# Altium footprint library Protel 99SE BANKS PCB.PCBLIB: 278 footprints (part 2 of 18)
Each footprint in its own frame and in the unit in brackets; x right, y up, seen from the top. Pads: shape width x height; smd on the part's side, far side on the other; paste and mask are expansions set on the pad; w line width, h text height; cw(c..) or ccw(c..) is an arc to the next point about the centre after c.
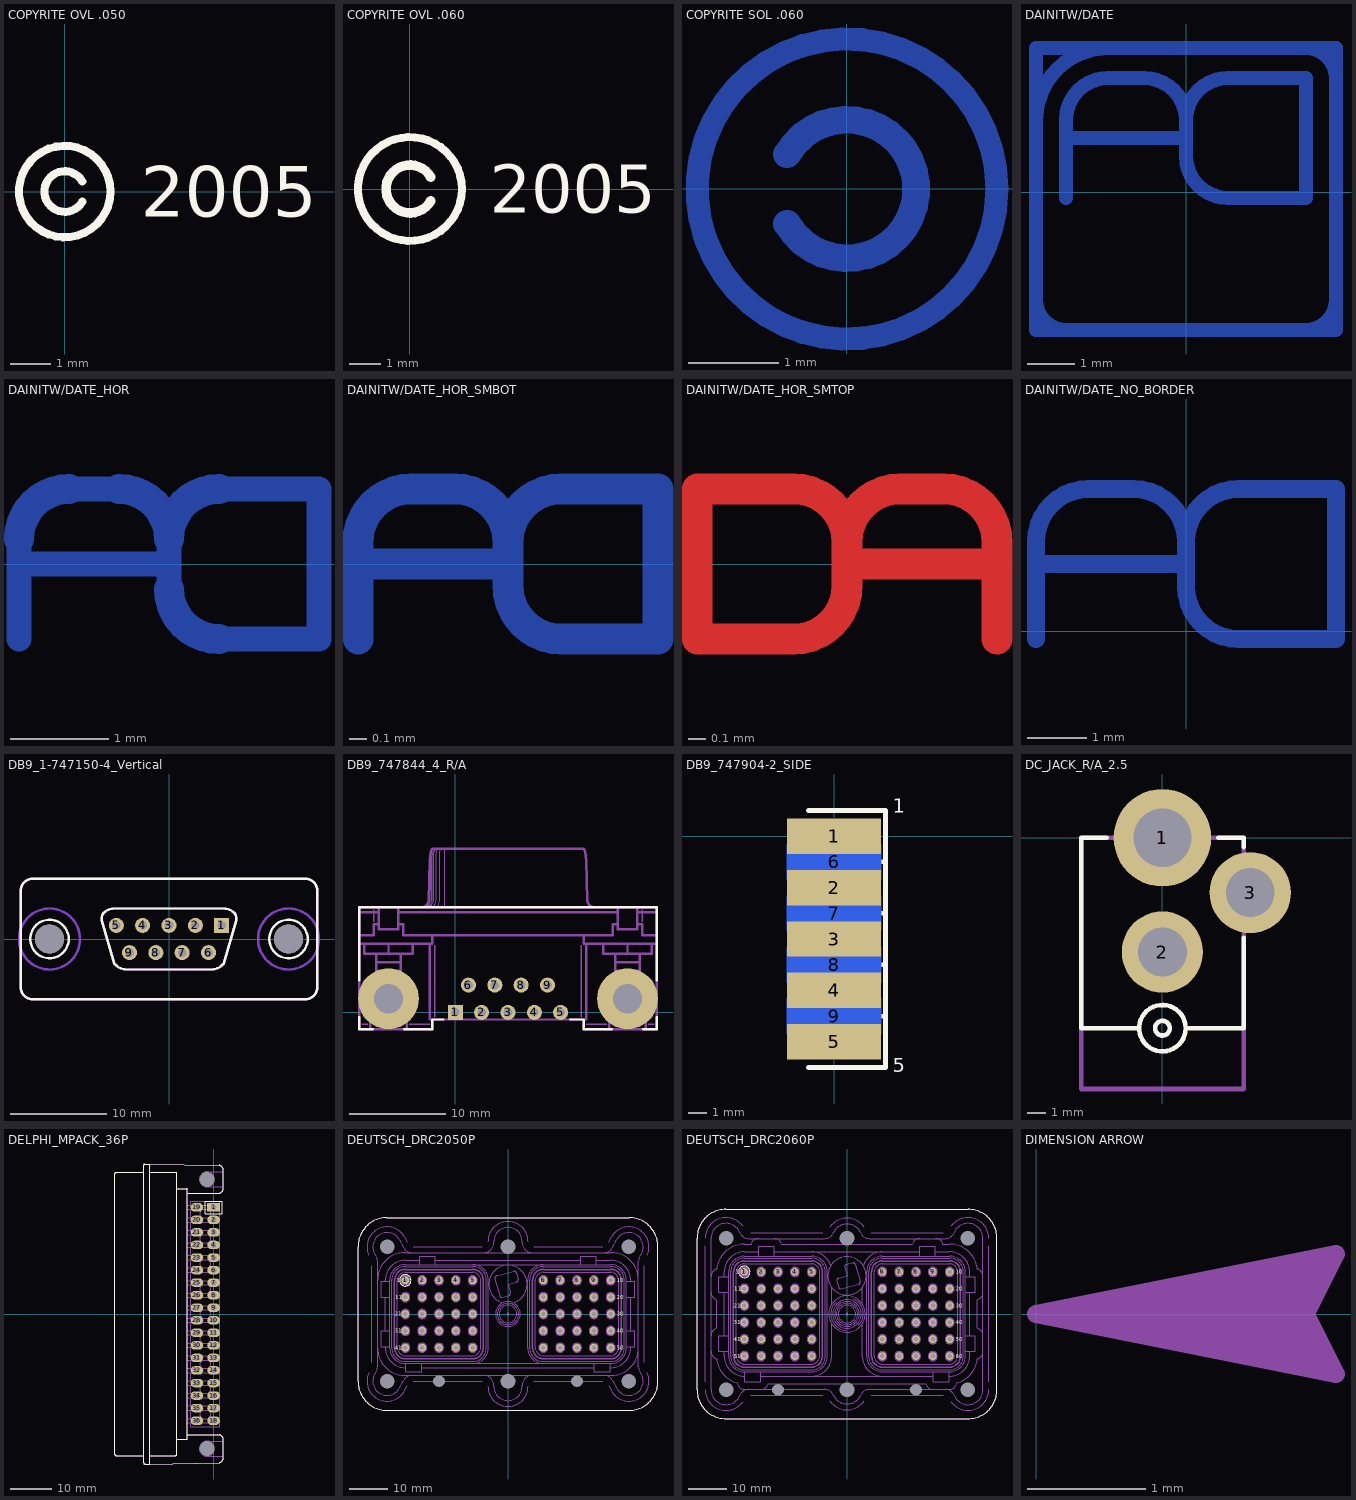
[diagram p1: the footprints below, top view; thin cyan lines are the x and y axes]

## COPYRITE OVL .050 [mil]
TopOverlay:
  circle w8: c0,0 r45
  lines w8: 17.32,-10 cw(c0,0) 17.32,10
  text "2005" at 75,-25 h50

## COPYRITE OVL .060 [mil]
TopOverlay:
  circle w10: c0,0 r65
  lines w12: 25.98,-15 cw(c0,0) 25.98,15
  text "2005" at 100,-30 h60

## COPYRITE SOL .060 [mil]
BottomLayer:
  circle w10: c0,0 r65
  lines w12: -25.98,-15 ccw(c0,0) -25.98,15
  text "2004" at -100,-30 h60

## DAINITW/DATE [mil]
BottomLayer:
  lines w12: -125,-105 -115,-115 ; -125,-90 ccw(c-100,-90) -100,-115 ; -125,60 cw(c-65,60) -65,120 ; -100,-5 -100,60 cw(c-65,60) -65,95 -35,95 cw(c-35,60) 0,60 ; -100,45 0,45 ; 100,-115 ccw(c100,-90) 125,-90 ; 100,120 cw(c100,95) 125,95 ; 115,-115 125,-105 ; 115,120 125,110 ; 0,60 cw(c35,60) 35,95 100,95 100,-5 35,-5 cw(c35,30) 0,30 0,60 ; -125,-115 -125,120 125,120 125,-115 -125,-115
  text "2004" at 100,-90 h60

## DAINITW/DATE_HOR [mil]
BottomLayer:
  lines w10: 60,-30 60,10 ; 60,0 120,0 ; 80,30 100,30 ; 120,-10 120,10 ; 140,-30 180,-30 180,30 140,30
  lines w12: 60,10 cw(c80,10) 80,30 ; 100,30 cw(c100,10) 120,10 cw(c140,10) 140,30 ; 120,-10 ccw(c140,-10) 140,-30
  text "2004" at 20,-30 h60

## DAINITW/DATE_HOR_SMBOT [mil]
BottomLayer:
  lines w7: 35,-17 35,5 cw(c47,5) 47,17 57,17 cw(c57,5) 69,5 ; 35,0 69,0 ; 69,5 cw(c81,5) 81,17 103,17 103,-17 81,-17 cw(c81,-5) 69,-5 69,5
  text "2004" at 10,-17 h34

## DAINITW/DATE_HOR_SMTOP [mil]
TopLayer:
  lines w7: -69,0 -35,0 ; -35,-17 -35,5 ccw(c-47,5) -47,17 -57,17 ccw(c-57,5) -69,5 ; -69,5 ccw(c-81,5) -81,17 -103,17 -103,-17 -81,-17 ccw(c-81,-5) -69,-5 -69,5
  text "2004" at -10,-17 h34

## DAINITW/DATE_NO_BORDER [mil]
BottomLayer:
  lines w12: -100,-5 -100,60 cw(c-65,60) -65,95 -35,95 cw(c-35,60) 0,60 ; -100,45 0,45 ; 0,60 cw(c35,60) 35,95 100,95 100,-5 35,-5 cw(c35,30) 0,30 0,60
  text "2004" at 100,-90 h60

## DB9_1-747150-4_Vertical [mil]
pads (11):
  rect 62x62 hole 35: 1(216,56)
  round 62 hole 35: 2(108,56) 3(0,56) 4(-108,56) 5(-216,56) 6(162,-56) 7(54,-56) 8(-54,-56) 9(-162,-56)
  round 120 hole 120 unplated: ""(-490,0) ""(490,0)
BottomLayer keep-out:
  circle w10: c490,0 r125
  circle w10: c-490,0 r125
TopOverlay:
  circle w10: c490,0 r78.74
  circle w10: c-490,0 r78.74
  circle w10: c608.07,189.37 r0
  circle w10: c-275,75 r0
  circle w10: c275,75 r0
  circle w10: c225,-100 r0
  circle w10: c-225,-100 r0
  circle w10: c225,125 r0
  lines w10: -557.87,-247.05 cw(c-557.87,-196.85) -608.07,-196.85 -608.07,196.85 cw(c-557.87,196.85) -557.87,247.05 ; -557.68,-247.05 558.27,-247.05 ccw(c558.27,-197.24) 608.07,-197.24 608.07,189.37 608.07,197.64 ; -557.68,247.05 558.27,247.05 ; 557.87,247.05 557.68,247.05 558.27,247.05 ; 608.07,197.24 ccw(c558.27,197.24) 558.27,247.05 ; -275,75 -275,89.64 cw(c-250,89.64) -267.68,107.32 cw(c-225,64.64) -225,125 225,125 cw(c225,64.64) 267.68,107.32 cw(c250,89.64) 275,89.64 275,75 225,-100 217.68,-107.32 cw(c175,-64.64) 175,-125 -175,-125 cw(c-175,-64.64) -217.68,-107.32 -225,-100 -275,75
Mechanical3:
  circle w10: c275,75 r0
  circle w10: c-275,75 r0
  circle w10: c-225,-100 r0
  circle w10: c225,-100 r0
  lines w10: -557.87,247.05 ccw(c-557.87,196.85) -608.07,196.85 -608.07,-196.85 ccw(c-557.87,-196.85) -557.87,-247.05 557.87,-247.05 ccw(c557.87,-196.85) 608.07,-196.85 608.07,196.85 ccw(c557.87,196.85) 557.87,247.05 ; -557.28,247.05 557.68,247.05 ; -275,75 -225,-100 -217.68,-107.32 ccw(c-175,-64.64) -175,-125 0,-125 175,-125 ccw(c175,-64.64) 217.68,-107.32 225,-100 275,75 275,89.64 ccw(c250,89.64) 267.68,107.32 ccw(c225,64.64) 225,125 0,125 -225,125 ccw(c-225,64.64) -267.68,107.32 ccw(c-250,89.64) -275,89.64 -275,75

## DB9_747844_4_R/A [mil]
pads (11):
  rect 62x62 hole 35: 1(0,0)
  round 62 hole 35: 2(108,0) 3(216,0) 4(324,0) 5(432,0) 6(54,112) 7(162,112) 8(270,112) 9(378,112)
  round 250 hole 120: ""(-274,56) ""(706,56)
TopOverlay:
  lines w10: -394,-19 -394,-69 -339,-69 ; -394,131 -394,431 826,431 826,131 ; -209,-69 -94,-69 -94,-29 -49,-29 ; 471,-29 526,-29 526,-69 641,-69 ; 771,-69 826,-69 826,-19
Mechanical3:
  circle w10: c-274,56 r93
  circle w10: c706,56 r93
  circle w10: c706,56 r70
  circle w10: c-274,56 r70
  lines w2: -133,431 ccw(c-133,460) -104,460 -104,535 ; -128,431 ccw(c-128,460) -99,460 -99,655 ; -123,431 ccw(c-123,460) -94,460 -94,640 -93,648 -92,653 -91,658 -89,663 -84,671 ; -118,431 ccw(c-118,460) -89,460 -89,640 -88,648 -86,657 -84,662 -79,671 ; -95,431 -87,440 -83,446 -80,453 -79,460 -79,640 -78,651 -76,660 -72,671 ; -74,431 -69,438 -67,444 -65,451 -64,460 -64,640 -63,657 -62,665 -60,671 ; -44,431 -44,670
  lines w4: -329,16 -329,96 -314,111 -234,111 -219,96 -219,16 -234,1 -314,1 -329,16 ; 651,16 651,96 666,111 746,111 761,96 761,16 746,1 666,1 651,16
  lines w6: -384,-49 -359,-49 ; -334,371 -334,421 ; -189,-49 -104,-49 ; -84,-19 -84,276 ; 516,-19 516,276 ; 536,-49 621,-49 ; 766,371 766,421 ; 791,-49 816,-49
  lines w10: -394,281 -94,281 -94,316 ; -394,316 -334,316 -334,361 -314,361 ; -394,411 -314,411 ; -374,281 -374,241 -174,241 -174,281 ; -349,-69 -349,1 ; -324,136 -324,241 ; -324,171 -224,171 ; -324,206 -224,206 ; -314,431 -314,341 -234,341 -234,431 ; -274,241 -274,281 ; -234,361 -214,361 -214,316 646,316 646,361 666,361 ; -234,411 666,411 ; -224,136 -224,241 ; -199,-69 -199,1 ; -139,431 ccw(c-139,461) -109,461 -104,621 -103,641 -101,656 -98,665 -94,671 526,671 530,665 533,656 535,641 536,621 541,461 ccw(c571,461) 571,431 ; -104,281 -104,-29 536,-29 536,281 ; -94,-29 -94,-69 -394,-69 -394,431 826,431 826,-69 526,-69 526,-29 ; 526,316 526,281 826,281 ; 606,281 606,241 806,241 806,281 ; 631,-69 631,1 ; 656,136 656,241 ; 656,171 756,171 ; 656,206 756,206 ; 666,431 666,341 746,341 746,431 ; 706,241 706,281 ; 746,361 766,361 766,316 826,316 ; 746,411 826,411 ; 756,136 756,241 ; 781,-69 781,1 ; -314,16 -234,16 -234,96 -314,96 -314,16 ; 666,16 746,16 746,96 666,96 666,16

## DB9_747904-2_SIDE [mil] "DB9 Solder Cup Conn., PCB slides between solder cups"
pads (9):
  rect 200x75 smd: 1(0,0) 2(0,-109) 3(0,-218) 4(0,-327) 5(0,-436)
  rect 200x75 smd far side: 6(0,-54.5) 7(0,-163.5) 8(0,-272.5) 9(0,-381.5)
TopOverlay:
  lines w10: -54.5,-490.5 109,-490.5 109,-381.5 ; -54.5,-381.5 109,-381.5 ; -54.5,-272.5 109,-272.5 ; -54.5,-163.5 109,-163.5 ; -54.5,-54.5 109,-54.5 ; -54.5,54.5 109,54.5 109,-54.5 ; 109,-381.5 109,-272.5 ; 109,-272.5 109,-163.5 ; 109,-163.5 109,-54.5
  text "1" at 125,50 h30
  text "5" at 125,-500 h30
BottomOverlay:
  lines w10: -54.5,-436 109,-436 109,-327 ; -54.5,-327 109,-327 ; -54.5,-218 109,-218 ; -54.5,-109 109,-109 ; -54.5,0 109,0 109,-109 ; 109,-327 109,-218 ; 109,-218 109,-109
  text "6" at 125,0 h30
  text "9" at 125,-450 h30

## DC_JACK_R/A_2.5 [mil] "DC JACK R/A 2.5mm"
pads (3):
  round 210 hole 125: 1(0,0)
  round 175 hole 105: 2(0,-246) 3(189,-118)
TopOverlay:
  circle w10: c0,-410 r15.81
  circle w10: c0,-410 r50
  lines w10: -120,0 -175,0 -175,-400 -175,-410 -50,-410 ; 50,-410 175,-410 175,-400 175,-215 ; 120,0 175,0 175,-20
Mechanical3:
  lines w10: -175,-541 -175,0 0,0 175,0 175,-541 0,-541 -175,-541

## DELPHI_MPACK_36P [mil]
pads (38):
  rect 120x80 hole 52: 1(0,1003.94)
  oval 120x80 hole 52: 2(0,885.83) 3(0,767.72) 4(0,649.61) 5(0,531.5) 6(0,413.39) 7(0,295.28) 8(0,177.16) 9(0,59.05) 10(0,-59.05) 11(0,-177.16) 12(0,-295.28) 13(0,-413.39) 14(0,-531.5) 15(0,-649.61) 16(0,-767.72) 17(0,-885.83) 18(0,-1003.94) 19(-157.48,1003.94) 20(-157.48,885.83) 21(-157.48,767.72) 22(-157.48,649.61) 23(-157.48,531.5) 24(-157.48,413.39) 25(-157.48,295.28) 26(-157.48,177.16) 27(-157.48,59.05) 28(-157.48,-59.05) 29(-157.48,-177.16) 30(-157.48,-295.28) 31(-157.48,-413.39) 32(-157.48,-531.5) 33(-157.48,-649.61) 34(-157.48,-767.72) 35(-157.48,-885.83) 36(-157.48,-1003.94)
  round 20 hole 142 unplated: ""(-63,-1268) ""(-63,1268)
TopOverlay:
  lines w10: -659,-1332 -919,-1332 cw(c-919,-1322) -929,-1322 -929,1322 cw(c-919,1322) -919,1332 -659,1332 ; -599,-1332 -357,-1332 ccw(c-357,-1322) -347,-1322 -347,1322 ccw(c-357,1322) -357,1332 -599,1332 ; -347,-1181 -257,-1181 ccw(c-257,-1171) -247,-1171 -247,1171 ccw(c-257,1171) -257,1181 -347,1181 ; -247,-1138 51,-1138 cw(c51,-1176) 89,-1176 89,-1361 cw(c51,-1361) 51,-1399 -599,-1412 ; -247,1138 51,1138 ccw(c51,1176) 89,1176 89,1361 ccw(c51,1361) 51,1399 -599,1412 ; -599,-1412 -599,1412 ; -599,-1412 -649,-1412 cw(c-649,-1402) -659,-1402 -659,1402 cw(c-649,1402) -649,1412 -599,1412 ; -79,944.94 -79,1062.94 79,1062.94 79,944.94 -79,944.94
Mechanical3:
  circle w10: c-63,-1268 r71
  circle w10: c-63,1268 r71
  lines w5: -216.74,-1024 -216.74,-1063 59.26,-1063 59.26,1063 -216.74,1063 -216.74,1024 ; -216.74,-983.88 -216.74,-905.88 ; -216.74,-865.77 -216.74,-787.77 ; -216.74,-747.66 -216.74,-669.66 ; -216.74,-629.55 -216.74,-551.55 ; -216.74,-511.44 -216.74,-433.44 ; -216.74,-393.33 -216.74,-315.33 ; -216.74,-275.22 -216.74,-197.22 ; -216.74,-157.11 -216.74,-79.11 ; -216.74,-39 -216.74,39 ; -216.74,79.11 -216.74,157.11 ; -216.74,197.22 -216.74,275.22 ; -216.74,315.33 -216.74,393.33 ; -216.74,433.44 -216.74,511.44 ; -216.74,551.55 -216.74,629.55 ; -216.74,669.66 -216.74,747.66 ; -216.74,787.77 -216.74,865.77 ; -216.74,905.88 -216.74,983.88 ; -110.21,-983.74 cw(c-78.74,-944.88) -110.21,-906.02 ; -110.21,-747.52 cw(c-78.74,-708.66) -110.21,-669.8 ; -110.21,-511.3 cw(c-78.74,-472.44) -110.21,-433.58 ; -110.21,-275.08 cw(c-78.74,-236.22) -110.21,-197.36 ; -110.21,-38.86 cw(c-78.74,0) -110.21,38.86 ; -110.21,197.36 cw(c-78.74,236.22) -110.21,275.08 ; -110.21,433.58 cw(c-78.74,472.44) -110.21,511.3 ; -110.21,669.8 cw(c-78.74,708.66) -110.21,747.52 ; -110.21,906.02 cw(c-78.74,944.88) -110.21,983.74 ; -47.27,-983.74 ccw(c-78.74,-944.88) -47.27,-906.02 ; -47.27,-747.52 ccw(c-78.74,-708.66) -47.27,-669.8 ; -47.27,-511.3 ccw(c-78.74,-472.44) -47.27,-433.58 ; -47.27,-275.08 ccw(c-78.74,-236.22) -47.27,-197.36 ; -47.27,-38.86 ccw(c-78.74,0) -47.27,38.86 ; -47.27,197.36 ccw(c-78.74,236.22) -47.27,275.08 ; -47.27,433.58 ccw(c-78.74,472.44) -47.27,511.3 ; -47.27,669.8 ccw(c-78.74,708.66) -47.27,747.52 ; -47.27,906.02 ccw(c-78.74,944.88) -47.27,983.74
  lines w6: -247,-1023.94 0,-1023.94 ccw(c0,-1003.94) 0,-983.94 -247,-983.94 ; -247,-905.83 0,-905.83 ccw(c0,-885.83) 0,-865.83 -247,-865.83 ; -247,-787.72 0,-787.72 ccw(c0,-767.72) 0,-747.72 -247,-747.72 ; -247,-669.61 0,-669.61 ccw(c0,-649.61) 0,-629.61 -247,-629.61 ; -247,-551.5 0,-551.5 ccw(c0,-531.5) 0,-511.5 -247,-511.5 ; -247,-433.39 0,-433.39 ccw(c0,-413.39) 0,-393.39 -247,-393.39 ; -247,-315.28 0,-315.28 ccw(c0,-295.28) 0,-275.28 -247,-275.28 ; -247,-197.17 0,-197.17 ccw(c0,-177.17) 0,-157.17 -247,-157.17 ; -247,-79.06 0,-79.06 ccw(c0,-59.05) 0,-39.05 -247,-39.06 ; -247,39.06 0,39.05 ccw(c0,59.05) 0,79.06 -247,79.06 ; -247,157.17 0,157.17 ccw(c0,177.17) 0,197.17 -247,197.17 ; -247,275.28 0,275.28 ccw(c0,295.28) 0,315.28 -247,315.28 ; -247,393.39 0,393.39 ccw(c0,413.39) 0,433.39 -247,433.39 ; -247,511.5 0,511.5 ccw(c0,531.5) 0,551.5 -247,551.5 ; -247,629.61 0,629.61 ccw(c0,649.61) 0,669.61 -247,669.61 ; -247,747.72 0,747.72 ccw(c0,767.72) 0,787.72 -247,787.72 ; -247,865.83 0,865.83 ccw(c0,885.83) 0,905.83 -247,905.83 ; -247,983.94 0,983.94 ccw(c0,1003.94) 0,1023.94 -247,1023.94
  lines w10: -659,-1332 -919,-1332 cw(c-919,-1322) -929,-1322 -929,1322 cw(c-919,1322) -919,1332 -659,1332 ; -599,-1332 -357,-1332 ccw(c-357,-1322) -347,-1322 -347,1322 ccw(c-357,1322) -357,1332 -599,1332 ; -347,-1181 -257,-1181 ccw(c-257,-1171) -247,-1171 -247,1171 ccw(c-257,1171) -257,1181 -347,1181 ; -247,-1138 51,-1138 cw(c51,-1176) 89,-1176 89,-1361 cw(c51,-1361) 51,-1399 -599,-1412 ; -247,1138 51,1138 ccw(c51,1176) 89,1176 89,1361 ccw(c51,1361) 51,1399 -599,1412 ; -63,-1339 89,-1339 ; -63,-1197 89,-1197 ; -63,1197 89,1197 ; -63,1339 89,1339 ; -599,-1412 -599,1412 ; -599,-1412 -649,-1412 cw(c-649,-1402) -659,-1402 -659,1402 cw(c-649,1402) -649,1412 -599,1412

## DEUTSCH_DRC2050P [mil]
pads (58):
  round 80 hole 50: 1(-1061,348) 2(-887,348) 3(-713,348) 4(-539,348) 5(-365,348) 6(365,348) 7(539,348) 8(713,348) 9(887,348) 10(1061,348) 11(-1061,174) 12(-887,174) 13(-713,174) 14(-539,174) 15(-365,174) 16(365,174) 17(539,174) 18(713,174) 19(887,174) 20(1061,174) 21(-1061,0) 22(-887,0) 23(-713,0) 24(-539,0) 25(-365,0) 26(365,0) 27(539,0) 28(713,0) 29(887,0) 30(1061,0) 31(-1061,-174) 32(-887,-174) 33(-713,-174) 34(-539,-174) 35(-365,-174) 36(365,-174) 37(539,-174) 38(713,-174) 39(887,-174) 40(1061,-174) 41(-1061,-348) 42(-887,-348) 43(-713,-348) 44(-539,-348) 45(-365,-348) 46(365,-348) 47(539,-348) 48(713,-348) 49(887,-348) 50(1061,-348)
  round 20 hole 150 unplated: ""(-1250,-695) ""(-1250,695) ""(0,-695) ""(0,695) ""(1250,-695) ""(1250,695)
  round 20 hole 122 unplated: ""(-713,-695) ""(713,-695)
TopOverlay:
  circle w8: c-1061,348 r59
  lines w12: -1550,-697 ccw(c-1252,-697) -1252,-995 1252,-995 ccw(c1252,-697) 1550,-697 1550,697 ccw(c1252,697) 1252,995 -1252,995 ccw(c-1252,697) -1550,697 -1550,-697
  text "10" at 1126,328 h40
  text "20" at 1126,154 h40
  text "30" at 1126,-20 h40
  text "40" at 1126,-194 h40
  text "50" at 1126,-368 h40
  text "41" at -1171,-368 h40
  text "31" at -1171,-194 h40
  text "11" at -1165,154 h40
  text "1" at -1151,328 h40
  text "21" at -1171,-20 h40
BottomOverlay:
  circle w8: c-1061,348 r59
  text "1" at -1141,328 h40
  text "11" at -1126,154 h40
  text "21" at -1126,-20 h40
  text "31" at -1126,-194 h40
  text "41" at -1126,-368 h40
  text "40" at 1188,-194 h40
  text "10" at 1182,328 h40
  text "20" at 1188,154 h40
  text "30" at 1188,-20 h40
  text "50" at 1188,-368 h40
Mechanical3:
  drawing of 442 lines, arcs and shapes, not listed
  text "05" at 45,222 h74

## DEUTSCH_DRC2060P [mil]
pads (68):
  round 80 hole 50: 1(-1061,435) 2(-887,435) 3(-713,435) 4(-539,435) 5(-365,435) 6(365,435) 7(539,435) 8(713,435) 9(887,435) 10(1061,435) 11(-1061,261) 12(-887,261) 13(-713,261) 14(-539,261) 15(-365,261) 16(365,261) 17(539,261) 18(713,261) 19(887,261) 20(1061,261) 21(-1061,87) 22(-887,87) 23(-713,87) 24(-539,87) 25(-365,87) 26(365,87) 27(539,87) 28(713,87) 29(887,87) 30(1061,87) 31(-1061,-87) 32(-887,-87) 33(-713,-87) 34(-539,-87) 35(-365,-87) 36(365,-87) 37(539,-87) 38(713,-87) 39(887,-87) 40(1061,-87) 41(-1061,-261) 42(-887,-261) 43(-713,-261) 44(-539,-261) 45(-365,-261) 46(365,-261) 47(539,-261) 48(713,-261) 49(887,-261) 50(1061,-261) 51(-1061,-435) 52(-887,-435) 53(-713,-435) 54(-539,-435) 55(-365,-435) 56(365,-435) 57(539,-435) 58(713,-435) 59(887,-435) 60(1061,-435)
  round 20 hole 150 unplated: ""(-1250,-782) ""(-1250,782) ""(0,-782) ""(0,782) ""(1250,-782) ""(1250,782)
  round 20 hole 122 unplated: ""(-713,-782) ""(713,-782)
TopOverlay:
  circle w8: c-1061,435 r59
  lines w12: -1550,-784 ccw(c-1252,-784) -1252,-1082 1252,-1082 ccw(c1252,-784) 1550,-784 1550,784 ccw(c1252,784) 1252,1082 -1252,1082 ccw(c-1252,784) -1550,784 -1550,-784
  text "21" at -1171,67 h40
  text "1" at -1151,415 h40
  text "11" at -1165,241 h40
  text "31" at -1171,-107 h40
  text "41" at -1171,-281 h40
  text "50" at 1126,-281 h40
  text "40" at 1126,-107 h40
  text "30" at 1126,67 h40
  text "20" at 1126,241 h40
  text "10" at 1126,415 h40
  text "51" at -1171,-455 h40
  text "60" at 1126,-455 h40
BottomOverlay:
  circle w8: c-1061,435 r59
  text "50" at 1188,-281 h40
  text "30" at 1188,67 h40
  text "20" at 1188,241 h40
  text "10" at 1182,415 h40
  text "40" at 1188,-107 h40
  text "41" at -1126,-281 h40
  text "31" at -1126,-107 h40
  text "21" at -1126,67 h40
  text "11" at -1126,241 h40
  text "1" at -1141,415 h40
  text "60" at 1186,-455 h40
  text "51" at -1126,-455 h40
Mechanical3:
  drawing of 514 lines, arcs and shapes, not listed
  text "06" at -161,405 h74

## DIMENSION ARROW [mil]
Mechanical2:
  lines w6: 90,-10 0,0 ; 90,-5 0,0 ; 90,5 0,0 ; 90,10 0,0 ; 95,-15 0,0 ; 95,15 0,0 ; 0,0 100,20 90,0 ; 0,0 100,-20 90,0 ; 0,0 90,0